# Altium footprint library QFN50P450X450X115-25N.PcbLib: 1 footprints
Each footprint in its own frame and in the unit in brackets; x right, y up, seen from the top. Pads: shape width x height; smd on the part's side, far side on the other; paste and mask are expansions set on the pad; w line width, h text height; cw(c..) or ccw(c..) is an arc to the next point about the centre after c.
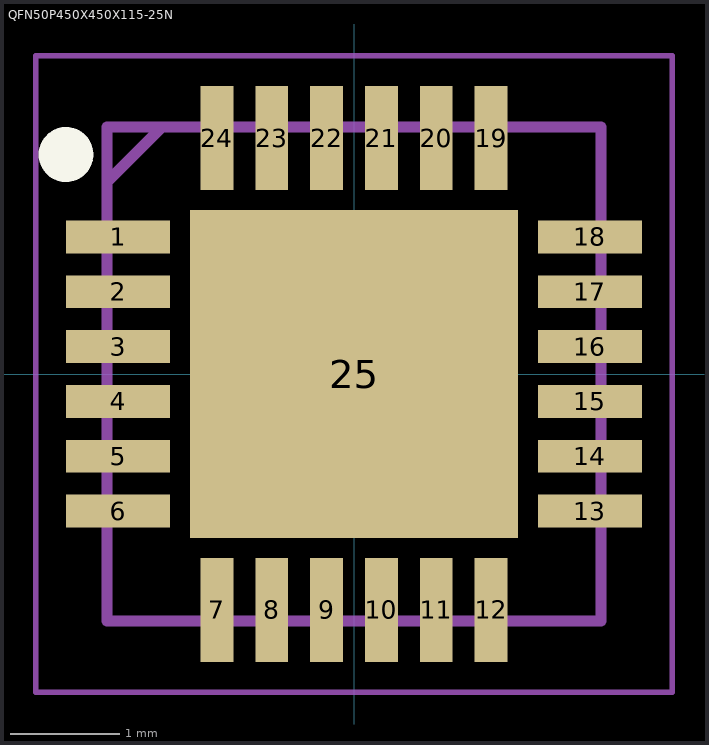
[diagram p0: the footprint, top view; thin cyan lines are the x and y axes]

## QFN50P450X450X115-25N [mm]
pads (25):
  rect 0.95x0.3 smd: 1(-2.15,1.25) 2(-2.15,0.75) 3(-2.15,0.25) 4(-2.15,-0.25) 5(-2.15,-0.75) 6(-2.15,-1.25) 13(2.15,-1.25) 14(2.15,-0.75) 15(2.15,-0.25) 16(2.15,0.25) 17(2.15,0.75) 18(2.15,1.25)
  rect 0.3x0.95 smd: 7(-1.25,-2.15) 8(-0.75,-2.15) 9(-0.25,-2.15) 10(0.25,-2.15) 11(0.75,-2.15) 12(1.25,-2.15) 19(1.25,2.15) 20(0.75,2.15) 21(0.25,2.15) 22(-0.25,2.15) 23(-0.75,2.15) 24(-1.25,2.15)
  rect 2.99x2.99 smd: 25(0,0)
Top Overlay:
  circle w0.25: c-2.625,2 r0.125
Mechanical 15:
  lines w0.1: -2.25,1.75 -1.75,2.25 ; -2.25,-2.25 2.25,-2.25 2.25,2.25 -2.25,2.25 -2.25,-2.25
Mechanical 20:
  lines w0.05: -2.9,-2.9 2.9,-2.9 2.9,2.9 -2.9,2.9 -2.9,-2.9